# Altium footprint library reminder-pb.PcbLib: 13 footprints
Each footprint in its own frame and in the unit in brackets; x right, y up, seen from the top. Pads: shape width x height; smd on the part's side, far side on the other; paste and mask are expansions set on the pad; w line width, h text height; cw(c..) or ccw(c..) is an arc to the next point about the centre after c.
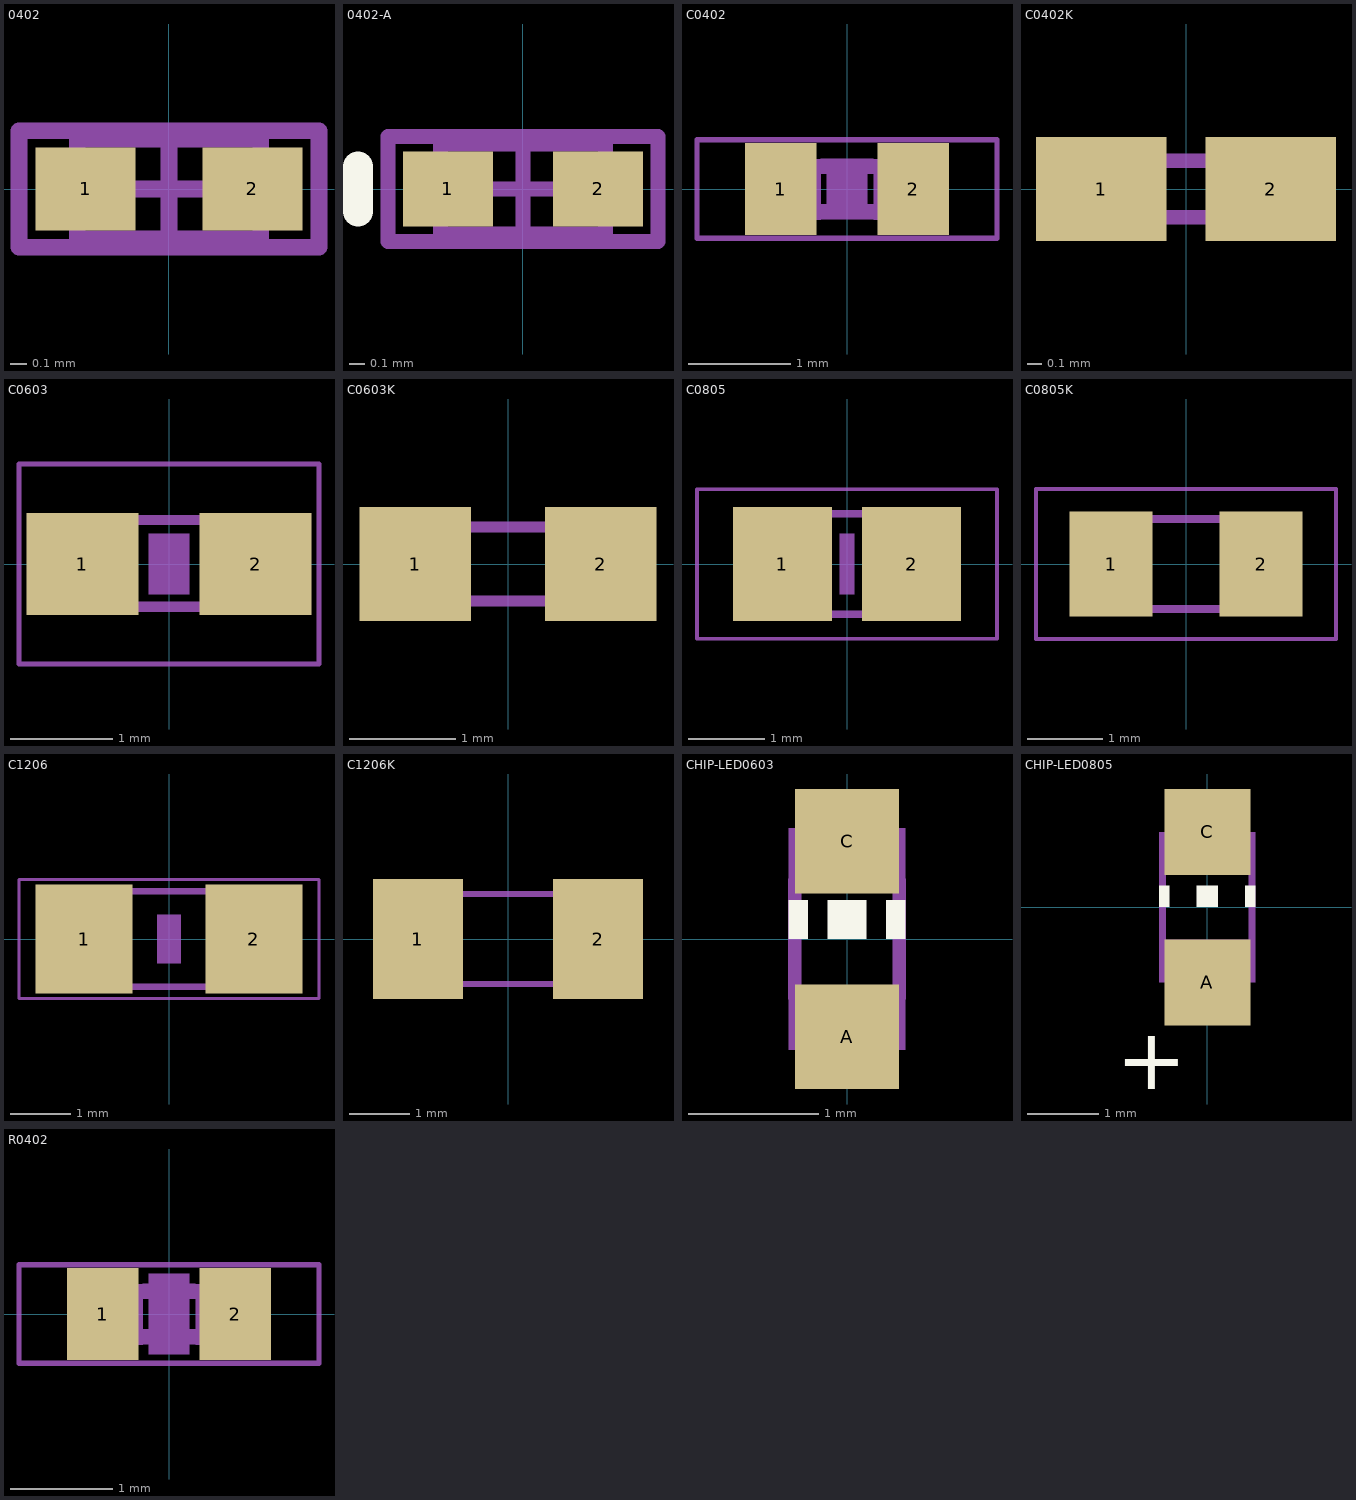
[diagram p0: the footprints below, top view; thin cyan lines are the x and y axes]

## 0402 [mm] "Chip Capacitor, Body 1.0x0.5mm, IPC High Density"
height 1.3
pads (2):
  rect 0.6x0.5 smd: 1(-0.5,0) 2(0.5,0)
Mechanical 13:
  lines w0.1: -0.55,-0.3 -0.55,0.3 0.55,0.3 0.55,-0.3 -0.55,-0.3
Mechanical 15:
  lines w0.1: -0.3,0 0.3,0 ; 0,-0.3 0,0.3 ; -0.9,-0.35 -0.9,0.35 0.9,0.35 0.9,-0.35 -0.9,-0.35
3D body: height 1.3, standoff 0, extent -0.55,-0.3 0.55,0.3

## 0402-A [mm] "Chip Inductor, Body 1.0x0.5mm, IPC High Density"
height 0.55
pads (2):
  rect 0.6x0.5 smd: 1(-0.5,0) 2(0.5,0)
Top Overlay:
  lines w0.2: -1.1,-0.15 -1.1,0.15
Mechanical 13:
  lines w0.1: -0.55,-0.3 -0.55,0.3 0.55,0.3 0.55,-0.3 -0.55,-0.3
Mechanical 15:
  lines w0.1: -0.3,0 0.3,0 ; 0,-0.3 0,0.3 ; -0.9,-0.35 -0.9,0.35 0.9,0.35 0.9,-0.35 -0.9,-0.35
3D body: height 0.55, standoff 0, extent -0.55,-0.3 0.55,0.3

## C0402 [mm]
pads (2):
  rect 0.7x0.9 smd: 1(-0.65,0) 2(0.65,0)
Mechanical 6:
  rectangle: -0.2,-0.3 0.2,0.3
Mechanical 16:
  rectangle: 0.259,-0.305 0.559,0.295
  rectangle: -0.554,-0.305 -0.254,0.295
  lines w0.152: -0.245,-0.224 0.245,-0.224 ; -0.245,0.224 0.245,0.224
Mechanical 27:
  lines w0.051: -1.473,-0.483 -1.473,0.483 1.473,0.483 1.473,-0.483 -1.473,-0.483

## C0402K [mm]
pads (2):
  rect 0.925x0.74 smd: 1(-0.6,0) 2(0.6,0)
Mechanical 16:
  rectangle: 0.225,-0.25 0.5,0.25
  rectangle: -0.5,-0.25 -0.225,0.25
  lines w0.102: -0.425,-0.2 0.425,-0.2 ; -0.425,0.2 0.425,0.2

## C0603 [mm]
pads (2):
  rect 1.1x1 smd: 1(-0.85,0) 2(0.85,0)
Mechanical 6:
  rectangle: -0.2,-0.3 0.2,0.3
Mechanical 16:
  rectangle: 0.33,-0.47 0.83,0.48
  rectangle: -0.838,-0.47 -0.338,0.48
  lines w0.102: -0.356,-0.419 0.356,-0.419 ; -0.356,0.432 0.356,0.432
Mechanical 27:
  lines w0.051: -1.473,-0.983 -1.473,0.983 1.473,0.983 1.473,-0.983 -1.473,-0.983

## C0603K [mm]
pads (2):
  rect 1.05x1.08 smd: 1(-0.875,0) 2(0.875,0)
Mechanical 16:
  rectangle: 0.45,-0.4 0.8,0.4
  rectangle: -0.8,-0.4 -0.45,0.4
  lines w0.102: -0.725,-0.35 0.725,-0.35 ; -0.725,0.35 0.725,0.35

## C0805 [mm]
pads (2):
  rect 1.3x1.5 smd: 1(-0.85,0) 2(0.85,0)
Mechanical 6:
  rectangle: -0.1,-0.4 0.1,0.4
Mechanical 16:
  rectangle: -1.092,-0.724 -0.342,0.726
  rectangle: 0.356,-0.724 1.106,0.726
  lines w0.102: -0.381,0.66 0.381,0.66 ; -0.356,-0.66 0.381,-0.66
Mechanical 27:
  lines w0.051: -1.973,-0.983 1.973,-0.983 1.973,0.983 -1.973,0.983 -1.973,-0.983

## C0805K [mm]
pads (2):
  rect 1.1x1.4 smd: 1(-1,0) 2(1,0)
Mechanical 16:
  rectangle: 0.5,-0.65 1,0.65
  rectangle: -1,-0.65 -0.5,0.65
  lines w0.102: -0.925,-0.6 0.925,-0.6 ; -0.925,0.6 0.925,0.6
Mechanical 27:
  lines w0.05: -2,-1 -2,1 2,1 2,-1 -2,-1

## C1206 [mm]
pads (2):
  rect 1.6x1.8 smd: 1(-1.4,0) 2(1.4,0)
Mechanical 6:
  rectangle: -0.2,-0.4 0.2,0.4
Mechanical 16:
  rectangle: 0.952,-0.849 1.702,0.851
  rectangle: -1.702,-0.851 -0.952,0.849
  lines w0.102: -0.965,-0.787 0.965,-0.787 ; -0.965,0.787 0.965,0.787
Mechanical 27:
  lines w0.051: -2.473,-0.983 -2.473,0.983 2.473,0.983 2.473,-0.983 -2.473,-0.983

## C1206K [mm]
pads (2):
  rect 1.5x2 smd: 1(-1.5,0) 2(1.5,0)
Mechanical 16:
  rectangle: 1.1,-0.8 1.6,0.8
  rectangle: -1.6,-0.8 -1.1,0.8
  lines w0.102: -1.525,-0.75 1.525,-0.75 ; -1.525,0.75 1.525,0.75

## CHIP-LED0603 [mil]
pads (2):
  rect 31.5x31.5 smd: A(0,-29.53) C(0,29.53)
Top Overlay:
  rectangle: -5.91,0 5.91,11.81
  rectangle: 11.81,0 17.72,11.81
  rectangle: -17.72,0 -11.81,11.81
Mechanical 16:
  rectangle: -17.72,-33.46 17.72,-17.72
  rectangle: -17.72,17.72 17.72,33.46
  lines w4: -15.75,-17.72 -15.75,17.72 ; 15.75,-17.72 15.75,17.72

## CHIP-LED0805 [mm]
pads (2):
  rect 1.2x1.2 smd: A(0,-1.05) C(0,1.05)
Top Overlay:
  rectangle: -0.15,0 0.15,0.3
  rectangle: 0.525,0 0.675,0.3
  rectangle: -0.675,0 -0.525,0.3
  text "+" at -1.27,-2.54 h0.86
Mechanical 16:
  rectangle: -0.675,-1.05 0.675,-0.45
  rectangle: -0.675,0.45 0.675,1.05
  lines w0.102: -0.625,-0.45 -0.625,0.45 ; 0.625,-0.475 0.625,0.45

## R0402 [mm]
pads (2):
  rect 0.7x0.9 smd: 1(-0.65,0) 2(0.65,0)
Mechanical 6:
  rectangle: -0.2,-0.4 0.2,0.4
Mechanical 16:
  rectangle: -0.554,-0.305 -0.254,0.295
  rectangle: 0.259,-0.305 0.559,0.295
  lines w0.152: -0.245,-0.224 0.245,-0.224 ; -0.245,0.224 0.245,0.224
Mechanical 27:
  lines w0.051: -1.473,-0.483 1.473,-0.483 1.473,0.483 -1.473,0.483 -1.473,-0.483